# Altium schematic symbol library ABM8G-25P000MHZ-4Y-T3.SchLib: 1 symbol
Pins are listed as number, name and electrical type; pins without a type are passive.

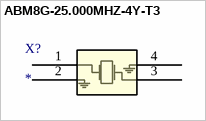
[diagram p0: symbol ABM8G-25.000MHZ-4Y-T3]

## ABM8G-25.000MHZ-4Y-T3
designator X?
No Description Available; Mfr_Name: Abracon; Type: Crystals; RefDes: RefDes
footprint ABM8G_ABR
pins: 1, 2, 3, 4